# Altium footprint library 2.Capasitors.PcbLib: 33 footprints (part 3 of 3)
Each footprint in its own frame and in the unit in brackets; x right, y up, seen from the top. Pads: shape width x height; smd on the part's side, far side on the other; paste and mask are expansions set on the pad; w line width, h text height; cw(c..) or ccw(c..) is an arc to the next point about the centre after c.
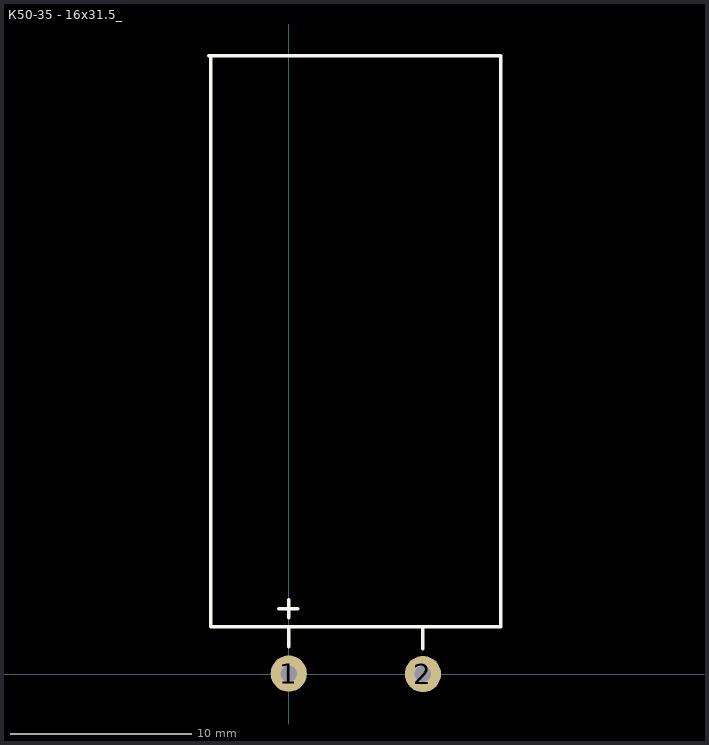
[diagram p2: the footprint, top view; thin cyan lines are the x and y axes]

## К50-35 - 16x31.5_ [mm]
pads (2):
  round 2 hole 0.9: 1(0,0.025) 2(7.4,0)
Top Overlay:
  lines w0.2: -0.55,3.6 0.5,3.6 ; 0,1.5 0,2.6 ; 0,3.1 0,4.1 ; 7.4,1.4 7.4,2.5 ; -4.4,34.1 cw(c-4.4,34) -4.3,34 -4.3,2.6 11.7,2.6 11.7,34.1 -4.4,34.1
3D body "User Library-CAPAER_D160_L315_P075_W008X030.STEP": height 16, standoff 0, extent -4.31,-0.4 11.7,34.113